# Altium schematic symbol library NJM2396F05.SchLib: 1 symbol
Pins are listed as number, name and electrical type; pins without a type are passive.

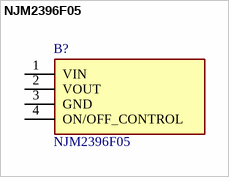
[diagram p0: symbol NJM2396F05]

## NJM2396F05
designator B?
LDO Voltage Regulators LDO w/On/Off Cntrl; Manufacturer_Name: New Japan Radio; Geometry.Height: 4.8mm; Mouser Part Number: 513-NJM2396F05; Mouser Price/Stock: https://www.mouser.co.uk/ProductDetail/NJR/NJM2396F05?qs=uTtZEXA6qg9fe3K1fQPnMA%3D%3D; Manufacturer_Part_Number: NJM2396F05; Datasheet Link: https://datasheet.datasheetarchive.com/originals/distributors/Datasheets-DGA25/1802734.pdf
footprint TO254P480X1000X1900-4P
pins: 1 VIN, 2 VOUT, 3 GND, 4 ON/OFF_CONTROL